# Altium footprint library SL02.PcbLib: 1 footprints
Each footprint in its own frame and in the unit in brackets; x right, y up, seen from the top. Pads: shape width x height; smd on the part's side, far side on the other; paste and mask are expansions set on the pad; w line width, h text height; cw(c..) or ccw(c..) is an arc to the next point about the centre after c.
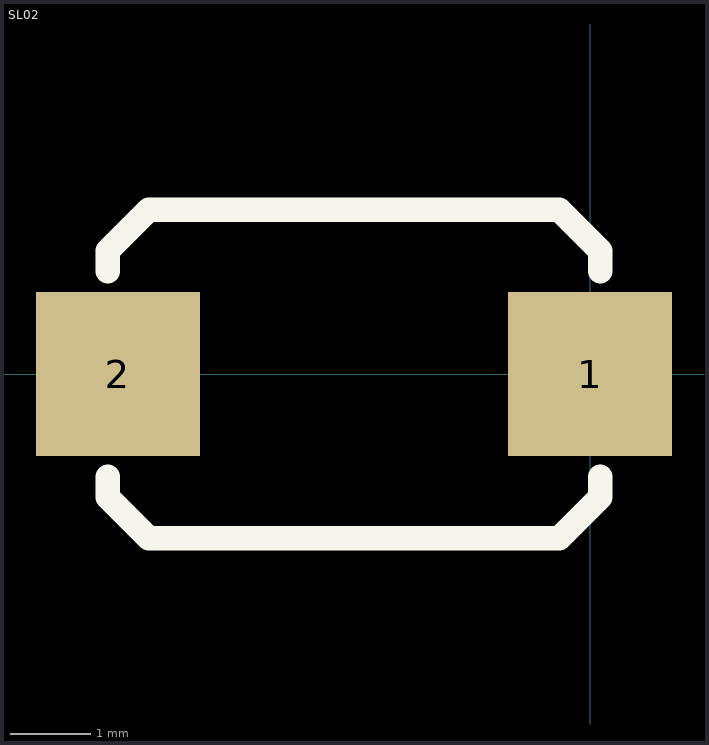
[diagram p0: the footprint, top view; thin cyan lines are the x and y axes]

## SL02 [mil]
pads (2):
  rect 80x80 smd: 1(0,0) 2(-230,0)
TopOverlay:
  lines w12: -235,-50 -235,-60 -215,-80 -15,-80 5,-60 5,-50 ; -235,50 -235,60 -215,80 -15,80 5,60 5,50
Mechanical4:
  text ".065" at 0,0 h1
3D body: height 115.6, standoff 0.6, extent -245.8,-88.61 14.2,86.39